# EAGLE library part MCP23016_DHT (library aggiunte)
MCP23016 I2C expander a 16 bit
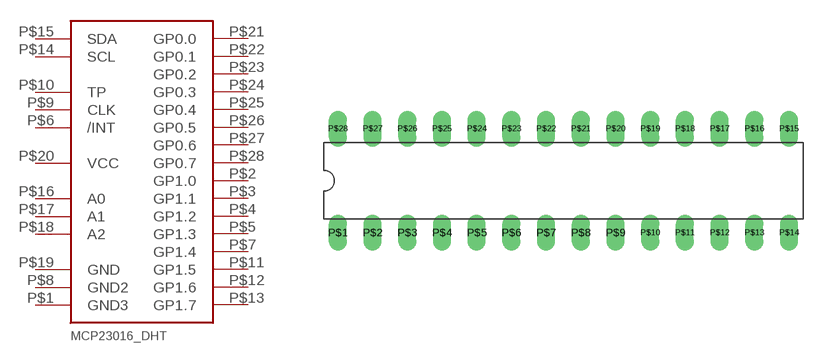
[diagram p5: symbol with the pads of MCP23016_DHT; footprint MCP23016_DHT]

Designator prefix -

## MCP23016_DHT  [MCP23016_DHT]
P$1  GND3  pwr
P$2  GP1.0
P$3  GP1.1
P$4  GP1.2
P$5  GP1.3
P$6  /INT  out
P$7  GP1.4
P$8  GND2  pwr
P$9  CLK  in
P$10  TP  pas
P$11  GP1.5
P$12  GP1.6
P$13  GP1.7
P$14  SCL  in
P$15  SDA
P$16  A0  in
P$17  A1  in
P$18  A2  in
P$19  GND  pwr
P$20  VCC  pwr
P$21  GP0.0
P$22  GP0.1
P$23  GP0.2
P$24  GP0.3
P$25  GP0.4
P$26  GP0.5
P$27  GP0.6
P$28  GP0.7

## Footprint MCP23016_DHT (pad centres in mm)
drill 0.8 long: P$1 0,0; P$2 2.54,0; P$3 5.08,0; P$4 7.62,0; P$5 10.16,0; P$6 12.7,0; P$7 15.24,0; P$8 17.78,0; P$9 20.32,0; P$10 22.86,0; P$11 25.4,0; P$12 27.94,0; P$13 30.48,0; P$14 33.02,0; P$15 33.02,7.62; P$16 30.48,7.62; P$17 27.94,7.62; P$18 25.4,7.62; P$19 22.86,7.62; P$20 20.32,7.62; P$21 17.78,7.62; P$22 15.24,7.62; P$23 12.7,7.62; P$24 10.16,7.62; P$25 7.62,7.62; P$26 5.08,7.62; P$27 2.54,7.62; P$28 0,7.62